# EAGLE library part PIC18F2420 (library omcPIC)
PIC18F2420 - 28-Pin High-Performance, Enhanced Flash MCUs with 10-bit A/D and nanoWatt Technologys Power Management Features: Run: CPU on, peripherals on Idle: CPU off, peripherals on Sleep: CPU off, peripherals off Ultra Low 50nA Input Leakage Run mode Currents Down to 11 μA Typical Idle mode Currents Down to 2.5 μA Typical Sleep mode Current Down to 100 nA Typical Timer1 Oscillator: 900 nA, 32 kHz, 2V Watchdog Timer: 1.4 μA, 2V Typical Two-Speed Oscillator Start-up Flexible Oscillator Structure: Four Crystal modes, up to 40 MHz 4x Phase Lock Loop (PLL) – Available for Crystal and Internal Oscillators Two External RC modes, up to 4 MHz Two External Clock modes, up to 40 MHz Internal oscillator block: Fast wake from Sleep and Idle, 1 μs typical 8 use-selectable frequencies, from 31 kHz to 8 MHz Provides a complete range of clock speeds from 31 kHz to 32 MHz when used with PLL User-tunable to compensate for frequency drift Secondary Oscillator using Timer1 @ 32 kHz Fail-Safe Clock Monitor Allows for safe shutdown if peripheral clock stops Peripheral Highlights: High current sink/source 25 mA/25 mA Three Programmable External Interrupts Four Input Change Interrupts Up to 2 Capture/Compare/PWM (CCP) modules, one with Auto-Shutdown (28-pin devices) Enhanced Capture/Compare/PWM (ECCP) module: One, two or four PWM outputs Selectable polarity Programmable dead time Auto-Shutdown and Auto-Restart Compatible 10-bit, up to 13-channel Analog-to-Digital Converter module (A/D) with programmable acquisition time Enhanced USART module: Supports RS-485, RS-232 and LIN 1.2 Auto-Wake-up on Start bit Auto-Baud Detect Master Synchronous Serial Port (MSSP) module Supporting 3-Wire SPI (all 4 modes) and I2C Master and Slave modes Enhanced Addressable USART module: Supports RS-485, RS-232 and LIN/J2602 RS-232 operation using internal oscillator block (no external crystal required) Auto-Baud Detect 10-Bit, up to 13-Channel Analog-to-Digital (A/D) Converter module: Auto-acquisition capability Conversion available during Sleep Dual Analog Comparators with Input Multiplexing Programmable 16-Level High/Low-Voltage Detection (HLVD) module: Supports interrupt on High/Low-Voltage Detection Special Microcontroller Features: C Compiler Optimized Architecture: Optional extended instruction set designed to optimize re-entrant code 100,000 erase/write cycle Enhanced Flash program memory typical 1,000,000 erase/write cycle Data EEPROM memory typical Flash/Data EEPROM Retention: 100 Years Typical Self-programmable under software control Priority levels for interrupts 8 x 8 Single-Cycle Hardware Multiplier Extended Watchdog Timer (WDT): Programmable period from 4 ms to 131s Single-supply 5V In-Circuit Serial Programming™ (ICSP™) via two pins In-Circuit Debug (ICD) via two pins Wide operating voltage range: 2.0V to 5.5V Programmable Brown-out Reset (BOR) with Software Enable Option Datasheet: Microchip <https://ww1.microchip.com/downloads/en/DeviceDoc/39631E.pdf> Reichelt <https://cdn-reichelt.de/documents/datenblatt/A300/PIC18F2420_2520_4420_4520.pdf>
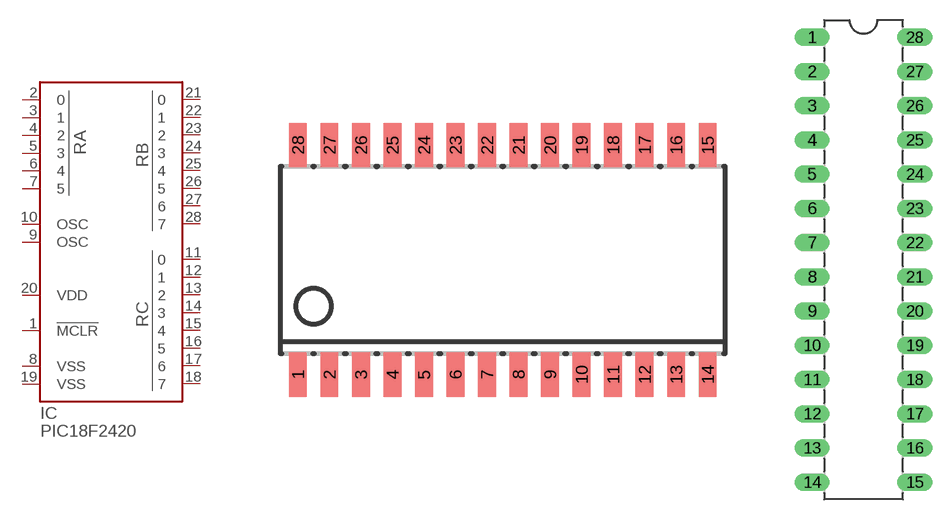
[diagram p3: symbol with the pads of SOIC28-7.62; footprints SOIC28-7.62, PDIP28]

Designator prefix IC

## PIC18F2420/SO (DIST#REICHELT: PIC 18F2420-I/SO; VALUE: PIC18F2420; VENDOR: Microchip,PIC18F2420-I/SO)  [SOIC28-7.62]
1  !MCLR  in
2  0
3  1
4  2
5  3
6  4
7  5
8  VSS  sup
9  OSC
10  OSC
11  0
12  1
13  2
14  3
15  4
16  5
17  6
18  7
19  VSS  sup
20  VDD  pwr
21  0
22  1
23  2
24  3
25  4
26  5
27  6
28  7

## PIC18F2420/SP (DIST#REICHELT: PIC 18F2420-I/SP; VALUE: PIC18F2420; VENDOR: Microchip,PIC18F2420-I/SO)  [PDIP28]
Pads as for SOIC28-7.62

## Footprint SOIC28-7.62 (pad centres in mm)
SOIC28 SMD 18mm×7.5mm Wikipedia <https://en.wikipedia.org/wiki/Small_Outline_Integrated_Circuit> Landing Pattern <http://practicalcomponents.com/assets/cfc/Attachments.cfc?method=Download&AttachmentID=895>
smd 0.72 x 1.78: 1 -8.255,-5.299; 2 -6.985,-5.299; 3 -5.715,-5.299; 4 -4.445,-5.299; 5 -3.175,-5.299; 6 -1.905,-5.299; 7 -0.635,-5.299; 8 0.635,-5.299; 9 1.905,-5.299; 10 3.175,-5.299; 11 4.445,-5.299; 12 5.715,-5.299; 13 6.985,-5.299; 14 8.255,-5.299; 15 8.255,3.949; 16 6.985,3.949; 17 5.715,3.949; 18 4.445,3.949; 19 3.175,3.949; 20 1.905,3.949; 21 0.635,3.949; 22 -0.635,3.949; 23 -1.905,3.949; 24 -3.175,3.949; 25 -4.445,3.949; 26 -5.715,3.949; 27 -6.985,3.949; 28 -8.255,3.949

## Footprint PDIP28 (pad centres in mm)
PDIP28 THT 35mm×7.5mm Mechanical <http://ww1.microchip.com/downloads/en/DeviceDoc/28L_SPDIP_300_SP_C04-070B.pdf> Wikipedia <https://en.wikipedia.org/wiki/Dual_in-line_packaget>
drill 0.8 long: 1 0,33.02; 2 0,30.48; 3 0,27.94; 4 0,25.4; 5 0,22.86; 6 0,20.32; 7 0,17.78; 8 0,15.24; 9 0,12.7; 10 0,10.16; 11 0,7.62; 12 0,5.08; 13 0,2.54; 14 0,0; 15 7.62,0; 16 7.62,2.54; 17 7.62,5.08; 18 7.62,7.62; 19 7.62,10.16; 20 7.62,12.7; 21 7.62,15.24; 22 7.62,17.78; 23 7.62,20.32; 24 7.62,22.86; 25 7.62,25.4; 26 7.62,27.94; 27 7.62,30.48; 28 7.62,33.02